# EAGLE library part ITDB0-3.2 (library ARVP)
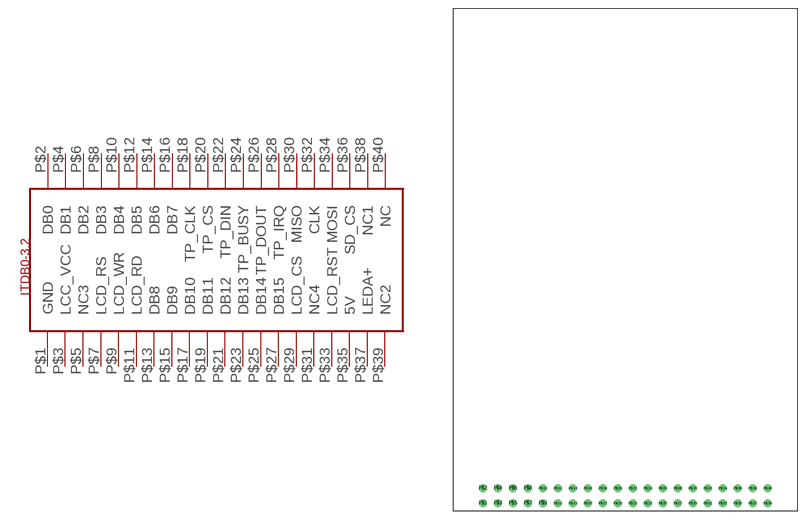
[diagram p22: symbol with the pads of ITDB02-3.2; footprint ITDB02-3.2]

Designator prefix -

## ITDB0-3.2  [ITDB02-3.2]
P$1  GND  pwr
P$2  DB0
P$3  LCC_VCC  pwr
P$4  DB1
P$5  NC3  nc
P$6  DB2
P$7  LCD_RS
P$8  DB3
P$9  LCD_WR
P$10  DB4
P$11  LCD_RD
P$12  DB5
P$13  DB8
P$14  DB6
P$15  DB9
P$16  DB7
P$17  DB10
P$18  TP_CLK
P$19  DB11
P$20  TP_CS
P$21  DB12
P$22  TP_DIN
P$23  DB13
P$24  TP_BUSY
P$25  DB14
P$26  TP_DOUT
P$27  DB15
P$28  TP_IRQ
P$29  LCD_CS
P$30  MISO
P$31  NC4  nc
P$32  CLK
P$33  LCD_RST
P$34  MOSI
P$35  5V  pwr
P$36  SD_CS
P$37  LEDA+  pwr
P$38  NC1  nc
P$39  NC2  nc
P$40  NC  nc

## Footprint ITDB02-3.2 (pad centres in mm)
drill 0.8: P$1 -10.16,0; P$2 -10.16,2.54; P$3 -7.62,0; P$4 -7.62,2.54; P$5 -5.08,0; P$6 -5.08,2.54; P$7 -2.54,0; P$8 -2.54,2.54; P$9 0,0; P$10 0,2.54; P$11 2.54,0; P$12 2.54,2.54; P$13 5.08,0; P$14 5.08,2.54; P$15 7.62,0; P$16 7.62,2.54; P$17 10.16,0; P$18 10.16,2.54; P$19 12.7,0; P$20 12.7,2.54; P$21 15.24,0; P$22 15.24,2.54; P$23 17.78,0; P$24 17.78,2.54; P$25 20.32,0; P$26 20.32,2.54; P$27 22.86,0; P$28 22.86,2.54; P$29 25.4,0; P$30 25.4,2.54; P$31 27.94,0; P$32 27.94,2.54; P$33 30.48,0; P$34 30.48,2.54; P$35 33.02,0; P$36 33.02,2.54; P$37 35.56,0; P$38 35.56,2.54; P$39 38.1,0; P$40 38.1,2.54